# Altium schematic symbol library KG1.SchLib: 1 symbol
Pins are listed as number, name and electrical type; pins without a type are passive.

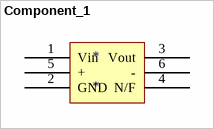
[diagram p0: symbol Component_1]

## Component_1
designator *
pins: 1 Vin, 2 GND, 3 Vout, 4 N/F, 5 +, 6 -